# EAGLE library part GIMBAL (library PiB_connectors)
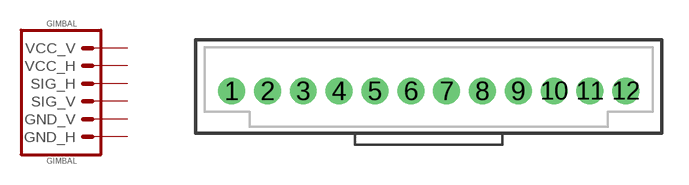
[diagram p11: symbol with the pads of 1X12-VERT-MALE-SHROUDED; footprint 1X12-VERT-MALE-SHROUDED]

Designator prefix GIMBAL

## GIMBAL_PTH_VERT-MALE_SHROUDED_PITCH-2MM_SHROUDED-3 (DATASHEET: N/A; DATASHEET_CONNECTOR: http://www.te.com/commerce/DocumentDelivery/DDEController?Action=srchrtrv&DocNm=1735446&DocType=Customer+Drawing&DocLang=English; DIST: HobbyKing; DISTLINK: https://hobbyking.com/en_us/frsky-replacement-gimbal-for-taranis-transmitter.html?___store=en_us; DISTLINK_CONNECTOR: https://www.digikey.com/products/en?keywords=A100106-ND; DISTPN: 236000033-0; DISTPN_CONNECTOR: A100106-ND; DIST_CONNECTOR: Digikey; MFR: FrSKY; MFR_CONNECTOR: TE Connectivity AMP Connectors; MPN: N/A; MPN_CONNECTOR: 1-1735446-2; VALUE: GIMBAL)  [1X12-VERT-MALE-SHROUDED]
1  VCC_V  pas
2  SIG_V  pas
3  GND_V  pas
4  VCC_H  pas
5  SIG_H  pas
6  GND_H  pas

## Footprint 1X12-VERT-MALE-SHROUDED (pad centres in mm)
drill 0.8 pad 1.5: 1 -11,0; 2 -9,0; 3 -7,0; 4 -5,0; 5 -3,0; 6 -1,0; 7 1,0; 8 3,0; 9 5,0; 10 7,0; 11 9,0; 12 11,0